# EAGLE library part MOLEX_87759_1250 (library maka-niu)
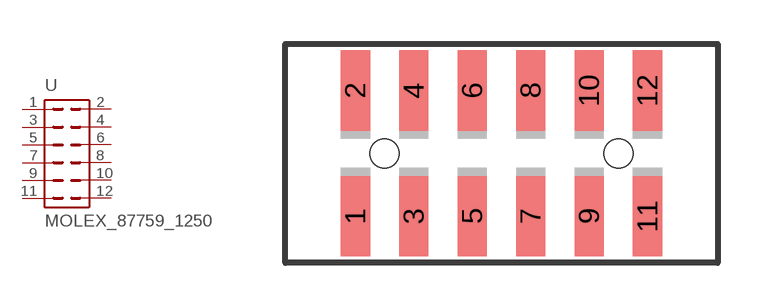
[diagram p1: symbol with the pads of 87759_1250; footprint 87759_1250]

Designator prefix -

## MOLEX_87759_1250  [87759_1250]
1  1  pas
2  2  pas
3  3  pas
4  4  pas
5  5  pas
6  6  pas
7  7  pas
8  8  pas
9  9  pas
10  10  pas
11  11  pas
12  12  pas

## Footprint 87759_1250 (pad centres in mm)
Molex Milli-Grid™ Header, Surface Mount, Vertical, Unshrouded, 12 Circuits, PCB Locator Datasheet <https://www.molex.com/pdm_docs/sd/877591250_sd.pdf>
smd 1 x 2.75: 1 -5,-2.15; 2 -5,2.15; 3 -3,-2.15; 4 -3,2.15; 5 -1,-2.15; 6 -1,2.15; 7 1,-2.15; 8 1,2.15; 9 3,-2.15; 10 3,2.15; 11 5,-2.15; 12 5,2.15
hole 1 at -4,0
hole 1 at 4,0